# EAGLE library part SCHMITT_TRIG (library tov)
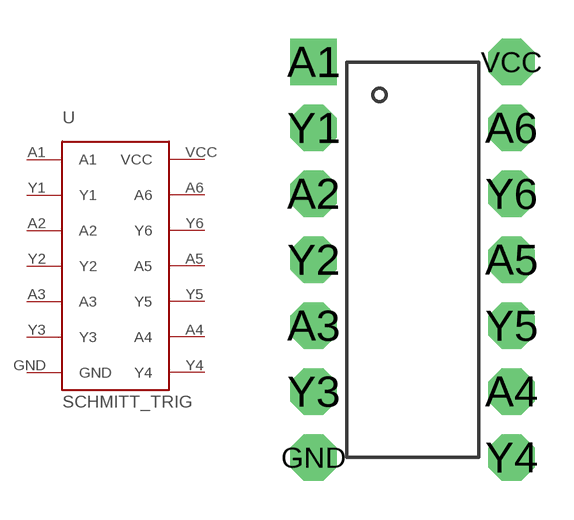
[diagram p2: symbol with the pads of SCHMITT_TRIG; footprint SCHMITT_TRIG]

Designator prefix -

## SCHMITT_TRIG  [SCHMITT_TRIG]
A1  A1
A2  A2
A3  A3
A4  A4
A5  A5
A6  A6
GND  GND
VCC  VCC
Y1  Y1
Y2  Y2
Y3  Y3
Y4  Y4
Y5  Y5
Y6  Y6

## Footprint SCHMITT_TRIG (pad centres in mm)
drill 0.5 pad 1.778 square: A1 0,0
drill 0.5 pad 1.778 octagon: A2 0,-5.08; A3 0,-10.16; A4 7.62,-12.7; A5 7.62,-7.62; A6 7.62,-2.54; GND 0,-15.24; VCC 7.62,0; Y1 0,-2.54; Y2 0,-7.62; Y3 0,-12.7; Y4 7.62,-15.24; Y5 7.62,-10.16; Y6 7.62,-5.08